# EAGLE library part KA78L05AKDTF (library CharlieCreations)
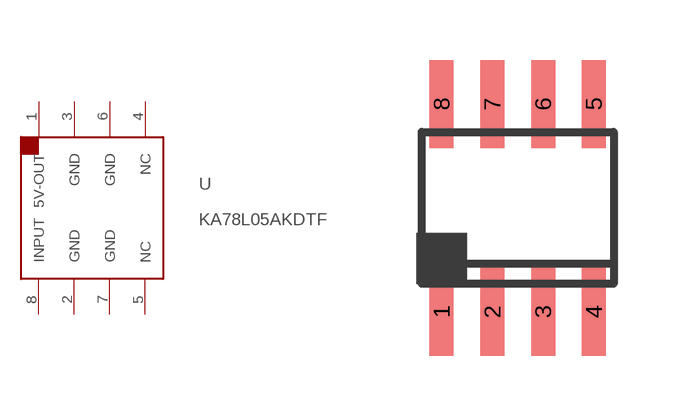
[diagram p2: symbol with the pads of 8-SOIC; footprint 8-SOIC]

Designator prefix -

## KA78L05AKDTF  [8-SOIC]
1  5V-OUT  pwr
2  GND  pwr
3  GND  pwr
4  NC  nc
5  NC  nc
6  GND  pwr
7  GND  pwr
8  INPUT  pwr

## Footprint 8-SOIC (pad centres in mm)
smd 0.6 x 2.2: 1 -1.905,-2.6; 2 -0.635,-2.6; 3 0.635,-2.6; 4 1.905,-2.6; 5 1.905,2.6; 6 0.635,2.6; 7 -0.635,2.6; 8 -1.905,2.6